# Altium footprint library SOT-323.PcbLib: 1 footprints
Each footprint in its own frame and in the unit in brackets; x right, y up, seen from the top. Pads: shape width x height; smd on the part's side, far side on the other; paste and mask are expansions set on the pad; w line width, h text height; cw(c..) or ccw(c..) is an arc to the next point about the centre after c.
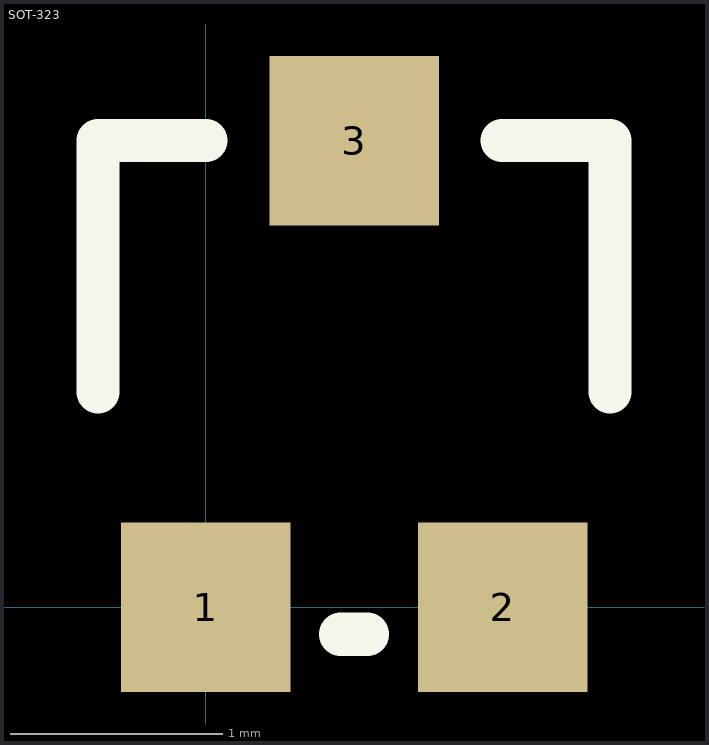
[diagram p0: the footprint, top view; thin cyan lines are the x and y axes]

## SOT-323 [mm]
pads (3):
  rect 0.8x0.8 smd: 1(0,0) 2(1.4,0) 3(0.7,2.2)
TopOverlay:
  lines w0.203: -0.508,1.016 -0.508,2.2 0,2.2 ; 0.635,-0.127 0.762,-0.127 ; 1.397,2.2 1.905,2.2 1.905,1.016
Mechanical4:
  text ".040" at 0,0 h0.03
3D body: height 1.1, standoff 0, extent -0.407,-0.019 1.793,2.226